# EAGLE library part JK0-0136NL (library gothack-made)
JK0-0136NL Gigabit Ethernet Jack w/ magenetics
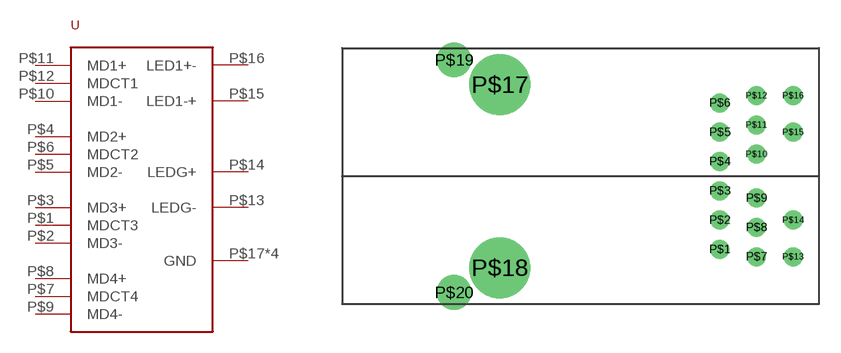
[diagram p4: symbol with the pads of JK0-0136NL; footprint JK0-0136NL]

Designator prefix -

## JK0-0136NL  [JK0-0136NL]
P$1  MDCT3
P$2  MD3-
P$3  MD3+
P$4  MD2+
P$5  MD2-
P$6  MDCT2
P$7  MDCT4
P$8  MD4+
P$9  MD4-
P$10  MD1-
P$11  MD1+
P$12  MDCT1
P$13  LEDG-
P$14  LEDG+
P$15  LED1-+
P$16  LED1+-
P$17  GND
P$18  GND
P$19  GND
P$20  GND

## Footprint JK0-0136NL (pad centres in mm)
drill 0.8 pad 0.889: P$1 26.162,-5.08; P$2 26.162,-3.048; P$3 26.162,-1.016; P$4 26.162,1.016; P$5 26.162,3.048; P$6 26.162,5.08; P$7 28.702,-5.588; P$8 28.702,-3.556; P$9 28.702,-1.524; P$10 28.702,1.524; P$11 28.702,3.556; P$12 28.702,5.588; P$13 31.242,-5.588; P$14 31.242,-3.048; P$15 31.242,3.048; P$16 31.242,5.588
drill 3.2: P$17 10.922,6.35; P$18 10.922,-6.35
drill 1.6: P$19 7.747,8.065; P$20 7.747,-8.065